# EAGLE library part SN74LVC3G17DCTR (library ti)
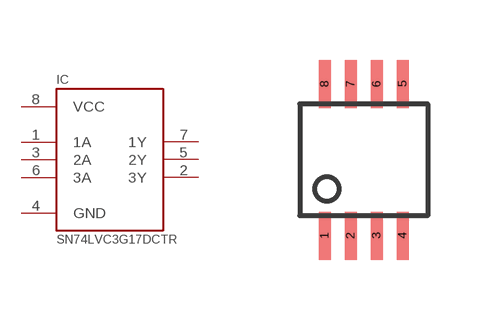
[diagram p6: symbol with the pads of SSOP8; footprint SSOP8]

Designator prefix IC

## SN74LVC3G17DCTR  [SSOP8]
1  1A  in
2  3Y  out
3  2A  in
4  GND  sup
5  2Y  out
6  3A  in
7  1Y  out
8  VCC  sup

## Footprint SSOP8 (pad centres in mm)
smd 0.3 x 1.2: 1 -0.975,-1.9; 2 -0.325,-1.9; 3 0.325,-1.9; 4 0.975,-1.9; 5 0.975,1.9; 6 0.325,1.9; 7 -0.325,1.9; 8 -0.975,1.9